# Altium footprint library RNC0014A.PcbLib: 1 footprints
Each footprint in its own frame and in the unit in brackets; x right, y up, seen from the top. Pads: shape width x height; smd on the part's side, far side on the other; paste and mask are expansions set on the pad; w line width, h text height; cw(c..) or ccw(c..) is an arc to the next point about the centre after c.
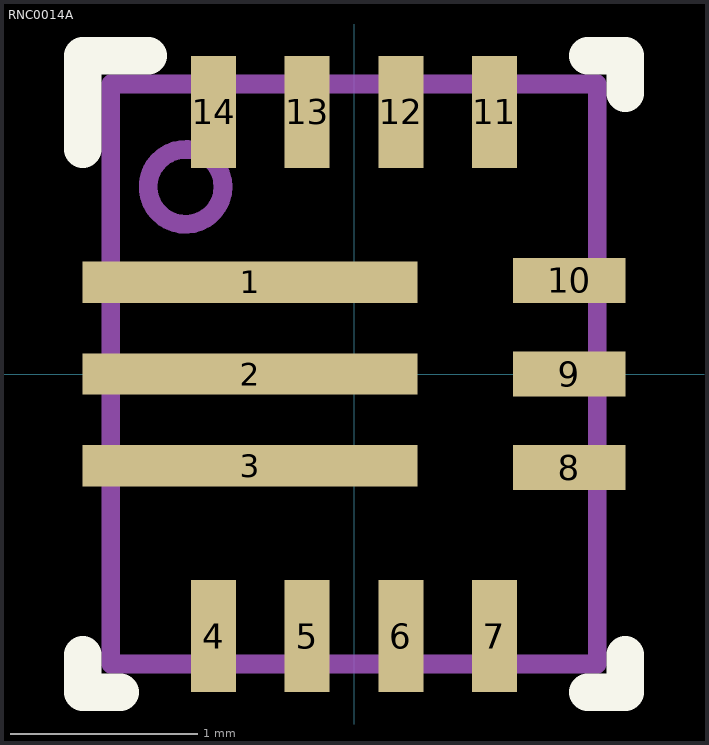
[diagram p0: the footprint, top view; thin cyan lines are the x and y axes]

## RNC0014A [mm]
pads (14):
  rect 1.79x0.22 smd paste-0.882 mask+0.051: 1(-0.555,0.49) 2(-0.555,0) 3(-0.555,-0.49)
  rect 0.24x0.6 smd paste+0 mask+0.051: 4(-0.75,-1.4) 5(-0.25,-1.4) 6(0.25,-1.4) 7(0.75,-1.4) 11(0.75,1.4) 12(0.25,1.4) 13(-0.25,1.4) 14(-0.75,1.4)
  rect 0.6x0.24 smd paste+0 mask+0.051: 8(1.15,-0.5) 9(1.15,0) 10(1.15,0.5)
Top Overlay:
  lines w0.2: -1.45,-1.5 -1.45,-1.7 -1.25,-1.7 ; -1.45,1.2 -1.45,1.7 -1.1,1.7 ; 1.25,-1.7 1.45,-1.7 1.45,-1.5 ; 1.25,1.7 1.45,1.7 1.45,1.5
Top Paste:
  drawing of 6 lines, arcs and shapes, not listed
Mechanical 13:
  circle w0.1: c-0.9,1 r0.2
  lines w0.1: -1.3,-1.55 -1.3,1.55 1.3,1.55 1.3,-1.55 -1.3,-1.55
3D body: height 0.25, standoff 0, extent 0,0 0.254,0.254
3D body "RNC0014A.step": height 1, standoff 0, extent -1.3,-1.55 1.3,1.55